# EAGLE library part RN-4 (library .custom-passive)
Chip Resistor Array 4 Single Resistors
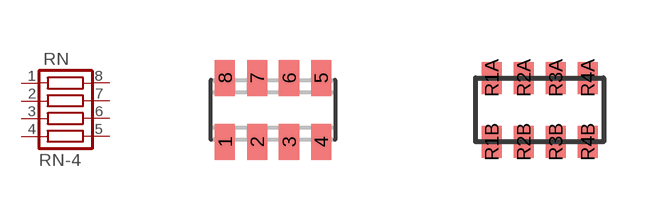
[diagram p0: symbol with the pads of RN-4_1206; footprints RN-4_1206, RN-4_0804]

Designator prefix RN

## RN-4  [RN-4_1206]
1  1  pas
2  2  pas
3  3  pas
4  4  pas
5  4A  pas
6  3A  pas
7  2A  pas
8  1A  pas

## RN-40804  [RN-4_0804]

## Footprint RN-4_1206 (pad centres in mm)
Chip Resistor Array Based on Bourns Inc. CAY16-J4. Source <https://www.bourns.com/docs/Product-Datasheets/CATCAY.pdf>
smd 0.5 x 0.9: 1 -1.2,-0.8; 2 -0.4,-0.8; 3 0.4,-0.8; 4 1.2,-0.8; 5 1.2,0.8; 6 0.4,0.8; 7 -0.4,0.8; 8 -1.2,0.8

## Footprint RN-4_0804 (pad centres in mm)
smd 0.5 x 0.8: R1A -1.2,0.8; R1B -1.2,-0.8; R2A -0.4,0.8; R2B -0.4,-0.8; R3A 0.4,0.8; R3B 0.4,-0.8; R4A 1.2,0.8; R4B 1.2,-0.8